# EAGLE library part HD-AD16RD (library #PaJa_displeje)
LED displej - SA - 57 mm - cervena
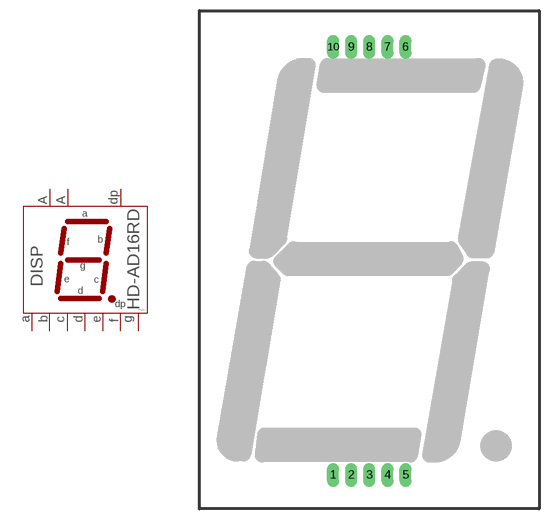
[diagram p10: symbol with the pads of HD-AD; footprint HD-AD]

Designator prefix DISP

## HD-AD16RD  [HD-AD]
1  CA1  pas
2  E  pas
3  D  pas
4  C  pas
5  CA2  pas
6  B  pas
7  A  pas
8  DP  pas
9  F  pas
10  G  pas

## Footprint HD-AD (pad centres in mm)
7-segmentovy displej - spol. anoda vyska znaku 57mm
drill 0.813 pad 1.676 long: 1 0,0; 2 2.54,0; 3 5.08,0; 4 7.62,0; 5 10.16,0; 6 10.16,60.008; 7 7.62,60.008; 8 5.08,60.008; 9 2.54,60.008; 10 0,60.008